# EAGLE library part LT3757 (library dubec)
LT3757/LT3757A Boost, Flyback, SEPIC Regulator Positive and Negative Output Step-Up, Step-Up/Step-Down DC-DC Controller
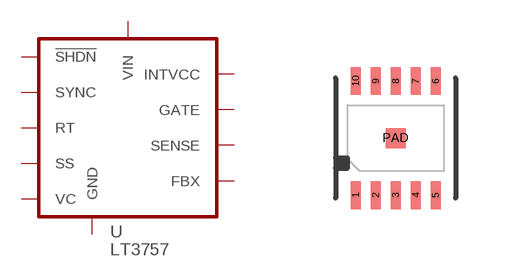
[diagram p24: symbol with the pads of 10-WFDFN; footprint 10-WFDFN]

Designator prefix -

## LT3757IDD (DIGIKEY_PART_#: LT3757IDD#PBF-ND; EURO: 71.25/25; MANUFACTURER: Linear Technology; MFG_PART_#: LT3757IDD#PBF; TEMP: -40°C ~ 125°C (TJ))  [10-WFDFN]
1  VC  pas
2  FBX  pas
3  SS  pas
4  RT  pas
5  SYNC  pas
6  SENSE  pas
7  GATE  pas
8  INTVCC  pas
9  !SHDN  pas
10  VIN  pwr
PAD  GND  pwr

## Footprint 10-WFDFN (pad centres in mm)
smd 0.25 x 0.7: 1 -1,-1.425; 2 -0.5,-1.425; 3 0,-1.425; 4 0.5,-1.425; 5 1,-1.425; 6 1,1.425; 7 0.5,1.425; 8 0,1.425; 9 -0.5,1.425; 10 -1,1.425
smd 0.5 x 0.5: PAD 0,0